# EAGLE library part OPA2320AIDGKR (library OPA2320AIDGKR)
Precision, Zero-Crossover, 20MHz, 0.9pA Ib, RRIO, CMOS Operational Amplifier Source: Datasheet <http://www.ti.com/lit/gpn/OPA2320>
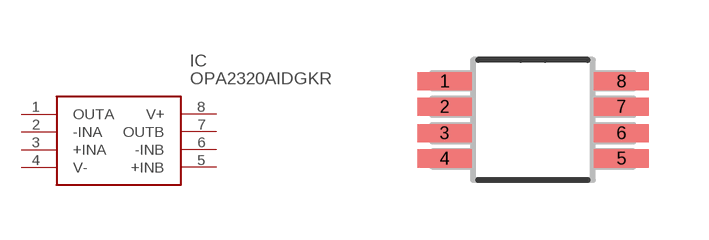
[diagram p0: symbol with the pads of SOP65P490X110-8N; footprint SOP65P490X110-8N]

Designator prefix IC

## OPA2320AIDGKR (Description: Precision, Zero-Crossover, 20MHz, 0.9pA Ib, RRIO, CMOS Operational Amplifier; Height: mm; Manufacturer_Name: Texas Instruments; Manufacturer_Part_Number: OPA2320AIDGKR; Mouser_Part_Number: 595-OPA2320AIDGKR; Mouser_Price-Stock: https://www.mouser.com/Search/Refine.aspx?Keyword=595-OPA2320AIDGKR)  [SOP65P490X110-8N]
1  OUTA
2  -INA
3  +INA
4  V-
5  +INB
6  -INB
7  OUTB
8  V+

## Footprint SOP65P490X110-8N (pad centres in mm)
SOP65P490X110-8N
smd 1.372 x 0.457: 1 -2.21,0.965; 2 -2.21,0.33; 3 -2.21,-0.33; 4 -2.21,-0.965; 5 2.21,-0.965; 6 2.21,-0.33; 7 2.21,0.33; 8 2.21,0.965